# Altium footprint library PCB_Library.PcbLib: 36 footprints (part 3 of 3)
Each footprint in its own frame and in the unit in brackets; x right, y up, seen from the top. Pads: shape width x height; smd on the part's side, far side on the other; paste and mask are expansions set on the pad; w line width, h text height; cw(c..) or ccw(c..) is an arc to the next point about the centre after c.
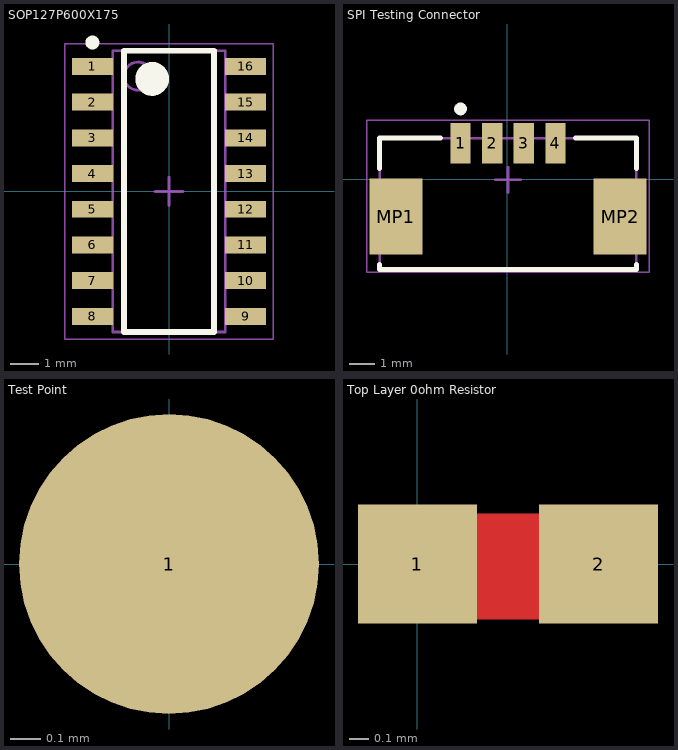
[diagram p2: the footprints below, top view; thin cyan lines are the x and y axes]

## SOP127P600X175 [mm] "SOP, 16-Leads, Body 9.90x3.90mm, Pitch 1.27mm, IPC Medium Density"
height 1.75
pads (16):
  rect 1.45x0.6 smd: 1(-2.725,4.445) 2(-2.725,3.175) 3(-2.725,1.905) 4(-2.725,0.635) 5(-2.725,-0.635) 6(-2.725,-1.905) 7(-2.725,-3.175) 8(-2.725,-4.445) 9(2.725,-4.445) 10(2.725,-3.175) 11(2.725,-1.905) 12(2.725,-0.635) 13(2.725,0.635) 14(2.725,1.905) 15(2.725,3.175) 16(2.725,4.445)
Top Overlay:
  circle w0.6: c-0.6,4 r0.3
  circle w0.25: c-2.725,5.295 r0.125
  lines w0.2: -1.6,-5 1.6,-5 1.6,5 -1.6,5 -1.6,-5
Mechanical 13:
  circle w0.1: c-1.1,4.1 r0.5
  lines w0.1: -2,-5 2,-5 2,5 -2,5 -2,-5
Mechanical 15:
  lines w0.05: -3.7,-5.25 3.7,-5.25 3.7,5.25 -3.7,5.25 -3.7,-5.25
  lines w0.1: -0.5,0 0.5,0 ; 0,-0.5 0,0.5
3D body "SOP127P600X175.step": height 1.75, standoff 0, extent -3,-5 3,5

## SPI Testing Connector [mm]
pads (6):
  rect 0.8x1.6 smd: 1(-1.85,1.425) 2(-0.6,1.425) 3(0.65,1.425) 4(1.9,1.425)
  rect 2.1x3 smd: MP1(-4.4,-1.475) MP2(4.45,-1.475)
Top Overlay:
  circle w0.25: c-1.85,2.775 r0.125
  lines w0.2: -5.05,-3.375 -5.05,-3.575 5.1,-3.575 5.1,-3.375 ; -5.05,0.425 -5.05,1.625 -2.65,1.625 ; 2.7,1.625 5.1,1.625 5.1,0.425
Mechanical 13:
  lines w0.1: -5.05,-3.575 5.1,-3.575 5.1,1.625 -5.05,1.625 -5.05,-3.575
Mechanical 15:
  lines w0.05: -5.55,-3.675 5.6,-3.675 5.6,2.325 -5.55,2.325 -5.55,-3.675
  lines w0.1: -0.475,-0.025 0.525,-0.025 ; 0.025,-0.525 0.025,0.475
3D body "532610471.stp": height 3.4, standoff 0, extent -5.05,-3.575 5.1,1.625

## Test Point [mm]
pads (1):
  round 1 smd: 1(0,0)

## Top Layer 0ohm Resistor [mm]
pads (2):
  rect 0.6x0.6 smd: 1(0,0) 2(0.914,0)
Top Layer:
  rectangle: 0.254,-0.279 0.66,0.254